# Altium schematic symbol library SnapEDAsch.SchLib: 1 symbol
Pins are listed as number, name and electrical type; pins without a type are passive.

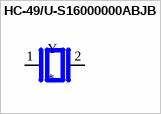
[diagram p0: symbol HC-49/U-S16000000ABJB]

## HC-49/U-S16000000ABJB
designator Y
16MHz Â±30ppm Crystal 18pF 50 Ohms HC-49/US; MP: HC-49/U-S16000000ABJB; MF: Citizen Finedevice; Package: HC-49/US Citizen Finedevice; Price: None; Availability: Unavailable; Value: *; SnapEDA_Link: https://www.snapeda.com/parts/HC-49/U-S16000000ABJB/Citizen%20Finedevice%20Co%20Ltd/view-part/511501/?ref=snap
footprint XTAL_HC49P488W43L1150T466H350
pins: 1, 2